# EAGLE library part XEF216-512-TQ128 (library 25cmsquare)
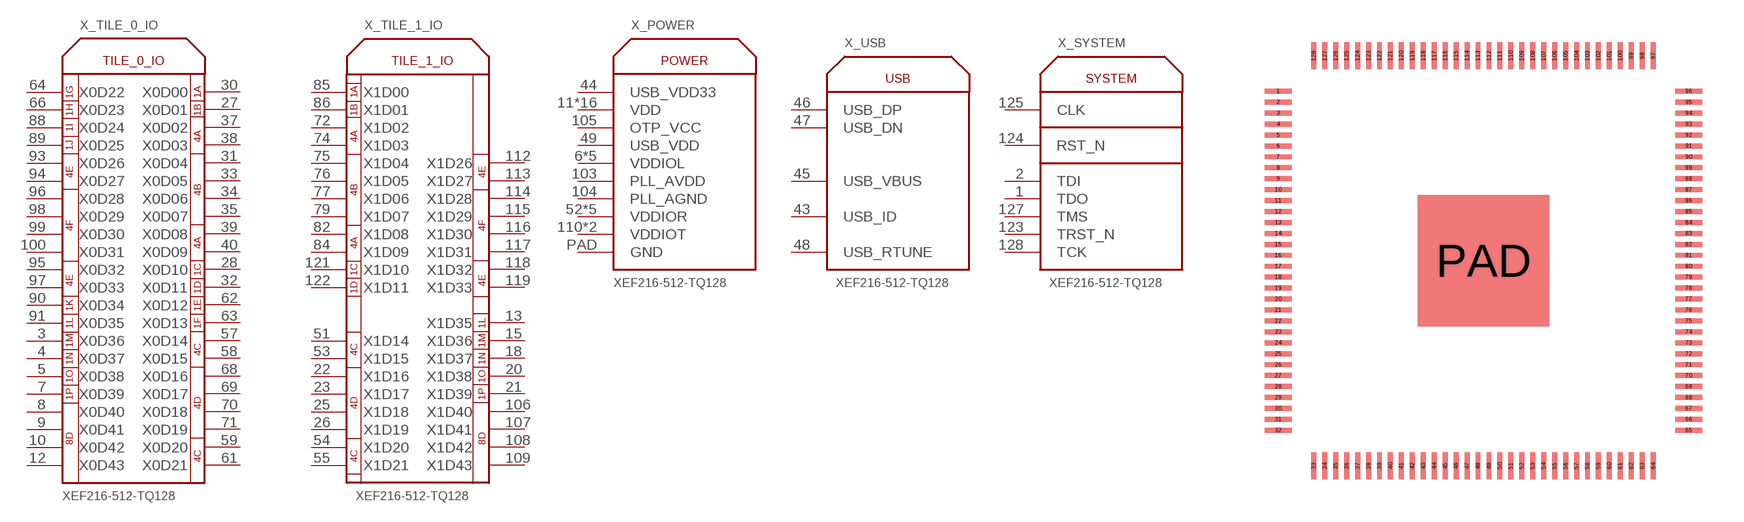
[diagram p13: symbol with the pads of TQFP128; footprint TQFP128]

Designator prefix X; gates _TILE_0_IO=XEF216-512-TQ128-TILE_0_IO _TILE_1_IO=XEF216-512-TQ128-TILE_1_IO _POWER=XEF216-512-TQ128-POWER _SYSTEM=XEF216-512-TQ128-SYSTEM _USB=XEF216-512-TQ128-USB

## XEF216-512-TQ128  [TQFP128]
1  _SYSTEM:TDO
2  _SYSTEM:TDI
3  _TILE_0_IO:X0D36
4  _TILE_0_IO:X0D37
5  _TILE_0_IO:X0D38
6  _POWER:VDDIOL
7  _TILE_0_IO:X0D39
8  _TILE_0_IO:X0D40
9  _TILE_0_IO:X0D41
10  _TILE_0_IO:X0D42
11  _POWER:VDD
12  _TILE_0_IO:X0D43
13  _TILE_1_IO:X1D35
14  _POWER:VDDIOL
15  _TILE_1_IO:X1D36
16  _POWER:VDD
17  _POWER:VDD
18  _TILE_1_IO:X1D37
19  _POWER:VDDIOL
20  _TILE_1_IO:X1D38
21  _TILE_1_IO:X1D39
22  _TILE_1_IO:X1D16
23  _TILE_1_IO:X1D17
24  _POWER:VDD
25  _TILE_1_IO:X1D18
26  _TILE_1_IO:X1D19
27  _TILE_0_IO:X0D01
28  _TILE_0_IO:X0D10
29  _POWER:VDDIOL
30  _TILE_0_IO:X0D00
31  _TILE_0_IO:X0D04
32  _TILE_0_IO:X0D11
33  _TILE_0_IO:X0D05
34  _TILE_0_IO:X0D06
35  _TILE_0_IO:X0D07
36  _POWER:VDD
37  _TILE_0_IO:X0D02
38  _TILE_0_IO:X0D03
39  _TILE_0_IO:X0D08
40  _TILE_0_IO:X0D09
41  _POWER:VDD
42  _POWER:VDDIOL
43  _USB:USB_ID
44  _POWER:USB_VDD33
45  _USB:USB_VBUS
46  _USB:USB_DP
47  _USB:USB_DN
48  _USB:USB_RTUNE
49  _POWER:USB_VDD
51  _TILE_1_IO:X1D14
52  _POWER:VDDIOR
53  _TILE_1_IO:X1D15
54  _TILE_1_IO:X1D20
55  _TILE_1_IO:X1D21
56  _POWER:VDD
57  _TILE_0_IO:X0D14
58  _TILE_0_IO:X0D15
59  _TILE_0_IO:X0D20
60  _POWER:VDD
61  _TILE_0_IO:X0D21
62  _TILE_0_IO:X0D12
63  _TILE_0_IO:X0D13
64  _TILE_0_IO:X0D22
66  _TILE_0_IO:X0D23
67  _POWER:VDDIOR
68  _TILE_0_IO:X0D16
69  _TILE_0_IO:X0D17
70  _TILE_0_IO:X0D18
71  _TILE_0_IO:X0D19
72  _TILE_1_IO:X1D02
73  _POWER:VDD
74  _TILE_1_IO:X1D03
75  _TILE_1_IO:X1D04
76  _TILE_1_IO:X1D05
77  _TILE_1_IO:X1D06
78  _POWER:VDDIOR
79  _TILE_1_IO:X1D07
80  _POWER:VDD
81  _POWER:VDD
82  _TILE_1_IO:X1D08
83  _POWER:VDDIOR
84  _TILE_1_IO:X1D09
85  _TILE_1_IO:X1D00
86  _TILE_1_IO:X1D01
87  _POWER:VDD
88  _TILE_0_IO:X0D24
89  _TILE_0_IO:X0D25
90  _TILE_0_IO:X0D34
91  _TILE_0_IO:X0D35
92  _POWER:VDDIOR
93  _TILE_0_IO:X0D26
94  _TILE_0_IO:X0D27
95  _TILE_0_IO:X0D32
96  _TILE_0_IO:X0D28
97  _TILE_0_IO:X0D33
98  _TILE_0_IO:X0D29
99  _TILE_0_IO:X0D30
100  _TILE_0_IO:X0D31
101  _POWER:VDD
102  _POWER:VDD
103  _POWER:PLL_AVDD
104  _POWER:PLL_AGND
105  _POWER:OTP_VCC
106  _TILE_1_IO:X1D40
107  _TILE_1_IO:X1D41
108  _TILE_1_IO:X1D42
109  _TILE_1_IO:X1D43
110  _POWER:VDDIOT
111  _POWER:VDDIOT
112  _TILE_1_IO:X1D26
113  _TILE_1_IO:X1D27
114  _TILE_1_IO:X1D28
115  _TILE_1_IO:X1D29
116  _TILE_1_IO:X1D30
117  _TILE_1_IO:X1D31
118  _TILE_1_IO:X1D32
119  _TILE_1_IO:X1D33
120  _POWER:VDD
121  _TILE_1_IO:X1D10
122  _TILE_1_IO:X1D11
123  _SYSTEM:TRST_N
124  _SYSTEM:RST_N
125  _SYSTEM:CLK
126  _POWER:VDD
127  _SYSTEM:TMS
128  _SYSTEM:TCK
PAD  _POWER:GND

## Footprint TQFP128 (pad centres in mm)
smd 1 x 0.18: 1 -7.5,6.2; 2 -7.5,5.8; 3 -7.5,5.4; 4 -7.5,5; 5 -7.5,4.6; 6 -7.5,4.2; 7 -7.5,3.8; 8 -7.5,3.4; 9 -7.5,3; 10 -7.5,2.6; 11 -7.5,2.2; 12 -7.5,1.8; 13 -7.5,1.4; 14 -7.5,1; 15 -7.5,0.6; 16 -7.5,0.2; 17 -7.5,-0.2; 18 -7.5,-0.6; 19 -7.5,-1; 20 -7.5,-1.4; 21 -7.5,-1.8; 22 -7.5,-2.2; 23 -7.5,-2.6; 24 -7.5,-3; 25 -7.5,-3.4; 26 -7.5,-3.8; 27 -7.5,-4.2; 28 -7.5,-4.6; 29 -7.5,-5; 30 -7.5,-5.4; 31 -7.5,-5.8; 32 -7.5,-6.2; 65 7.5,-6.2; 66 7.5,-5.8; 67 7.5,-5.4; 68 7.5,-5; 69 7.5,-4.6; 70 7.5,-4.2; 71 7.5,-3.8; 72 7.5,-3.4; 73 7.5,-3; 74 7.5,-2.6; 75 7.5,-2.2; 76 7.5,-1.8; 77 7.5,-1.4; 78 7.5,-1; 79 7.5,-0.6; 80 7.5,-0.2; 81 7.5,0.2; 82 7.5,0.6; 83 7.5,1; 84 7.5,1.4; 85 7.5,1.8; 86 7.5,2.2; 87 7.5,2.6; 88 7.5,3; 89 7.5,3.4; 90 7.5,3.8; 91 7.5,4.2; 92 7.5,4.6; 93 7.5,5; 94 7.5,5.4; 95 7.5,5.8; 96 7.5,6.2
smd 0.18 x 1: 33 -6.2,-7.5; 34 -5.8,-7.5; 35 -5.4,-7.5; 36 -5,-7.5; 37 -4.6,-7.5; 38 -4.2,-7.5; 39 -3.8,-7.5; 40 -3.4,-7.5; 41 -3,-7.5; 42 -2.6,-7.5; 43 -2.2,-7.5; 44 -1.8,-7.5; 45 -1.4,-7.5; 46 -1,-7.5; 47 -0.6,-7.5; 48 -0.2,-7.5; 49 0.2,-7.5; 50 0.6,-7.5; 51 1,-7.5; 52 1.4,-7.5; 53 1.8,-7.5; 54 2.2,-7.5; 55 2.6,-7.5; 56 3,-7.5; 57 3.4,-7.5; 58 3.8,-7.5; 59 4.2,-7.5; 60 4.6,-7.5; 61 5,-7.5; 62 5.4,-7.5; 63 5.8,-7.5; 64 6.2,-7.5; 97 6.2,7.5; 98 5.8,7.5; 99 5.4,7.5; 100 5,7.5; 101 4.6,7.5; 102 4.2,7.5; 103 3.8,7.5; 104 3.4,7.5; 105 3,7.5; 106 2.6,7.5; 107 2.2,7.5; 108 1.8,7.5; 109 1.4,7.5; 110 1,7.5; 111 0.6,7.5; 112 0.2,7.5; 113 -0.2,7.5; 114 -0.6,7.5; 115 -1,7.5; 116 -1.4,7.5; 117 -1.8,7.5; 118 -2.2,7.5; 119 -2.6,7.5; 120 -3,7.5; 121 -3.4,7.5; 122 -3.8,7.5; 123 -4.2,7.5; 124 -4.6,7.5; 125 -5,7.5; 126 -5.4,7.5; 127 -5.8,7.5; 128 -6.2,7.5
smd 4.8 x 4.8: PAD 0,0